# EAGLE library part IC16 (library 1-Generic)
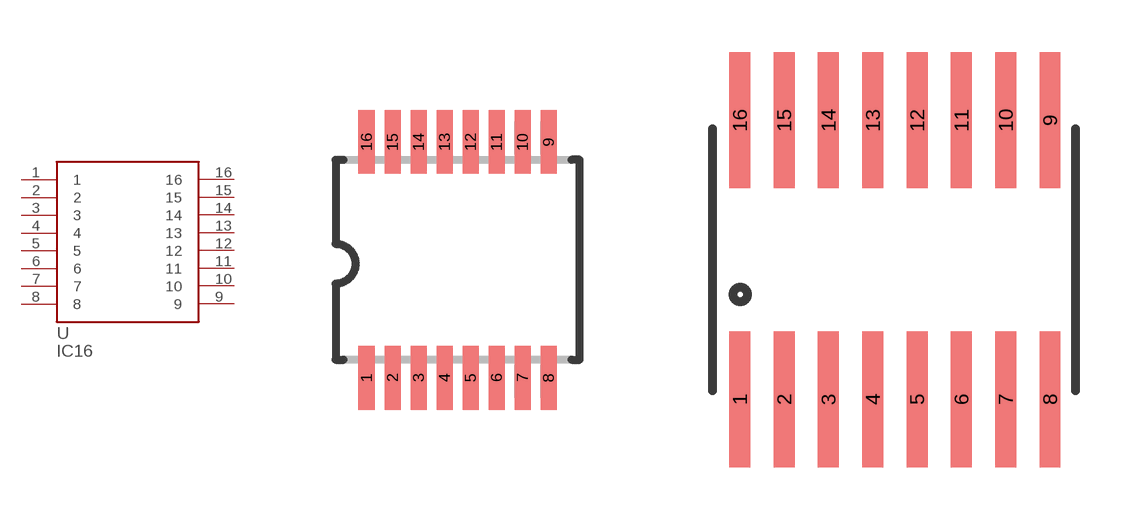
[diagram p0: symbol with the pads of TSSOP16; footprints TSSOP16, SOIC-16-300MIL]

Designator prefix U

## IC16TSSOP  [TSSOP16]
1  1
2  2
3  3
4  4
5  5
6  6
7  7
8  8
9  9
10  10
11  11
12  12
13  13
14  14
15  15
16  16

## IC16SOIC  [SOIC-16-300MIL]
Pads as for TSSOP16

## Footprint TSSOP16 (pad centres in mm)
TSOP16 thin small outline package
smd 0.4 x 1.6: 1 -2.225,-2.85; 2 -1.575,-2.85; 3 -0.925,-2.85; 4 -0.275,-2.85; 5 0.375,-2.85; 6 1.025,-2.85; 7 1.675,-2.85; 8 2.325,-2.85; 9 2.325,3.05; 10 1.675,3.05; 11 1.025,3.05; 12 0.375,3.05; 13 -0.275,3.05; 14 -0.925,3.05; 15 -1.575,3.05; 16 -2.225,3.05

## Footprint SOIC-16-300MIL (pad centres in mm)
smd 0.6 x 3.9: 1 -4.115,-4; 2 -2.845,-4; 3 -1.575,-4; 4 -0.305,-4; 5 0.965,-4; 6 2.235,-4; 7 3.505,-4; 8 4.775,-4; 9 4.775,4; 10 3.505,4; 11 2.235,4; 12 0.965,4; 13 -0.305,4; 14 -1.575,4; 15 -2.845,4; 16 -4.115,4